# EAGLE library part LTC1955 (library LinearTech-AON)
Dual Smart Card interface with Serial control
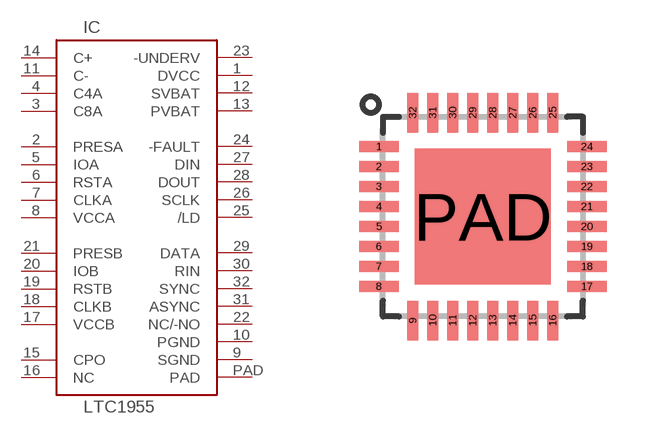
[diagram p0: symbol with the pads of QFN32; footprint QFN32]

Designator prefix IC

## LTC1955  [QFN32]
1  DVCC
2  PRESA
3  C8A
4  C4A
5  IOA
6  RSTA
7  CLKA
8  VCCA
9  SGND  in
10  PGND  in
11  C-  in
12  SVBAT  in
13  PVBAT  in
14  C+  in
15  CPO
16  NC
17  VCCB
18  CLKB
19  RSTB
20  IOB
21  PRESB
22  NC/-NO
23  -UNDERV
24  -FAULT
25  /LD
26  SCLK
27  DIN
28  DOUT
29  DATA
30  RIN
31  ASYNC
32  SYNC
PAD  PAD  in

## Footprint QFN32 (pad centres in mm)
Chip Scale package 32 pin 5x5 LTC UH
smd 0.99 x 0.28: 1 -2.6,1.75; 2 -2.6,1.25; 3 -2.6,0.75; 4 -2.6,0.25; 5 -2.6,-0.25; 6 -2.6,-0.75; 7 -2.6,-1.25; 8 -2.6,-1.75; 17 2.6,-1.75; 18 2.6,-1.25; 19 2.6,-0.75; 20 2.6,-0.25; 21 2.6,0.25; 22 2.6,0.75; 23 2.6,1.25; 24 2.6,1.75
smd 0.28 x 0.99: 9 -1.75,-2.6; 10 -1.25,-2.6; 11 -0.75,-2.6; 12 -0.25,-2.6; 13 0.25,-2.6; 14 0.75,-2.6; 15 1.25,-2.6; 16 1.75,-2.6; 25 1.75,2.6; 26 1.25,2.6; 27 0.75,2.6; 28 0.25,2.6; 29 -0.25,2.6; 30 -0.75,2.6; 31 -1.25,2.6; 32 -1.75,2.6
smd 3.4 x 3.4: PAD 0,0